# Altium footprint library QFP.PcbLib: 10 footprints
Each footprint in its own frame and in the unit in brackets; x right, y up, seen from the top. Pads: shape width x height; smd on the part's side, far side on the other; paste and mask are expansions set on the pad; w line width, h text height; cw(c..) or ccw(c..) is an arc to the next point about the centre after c.
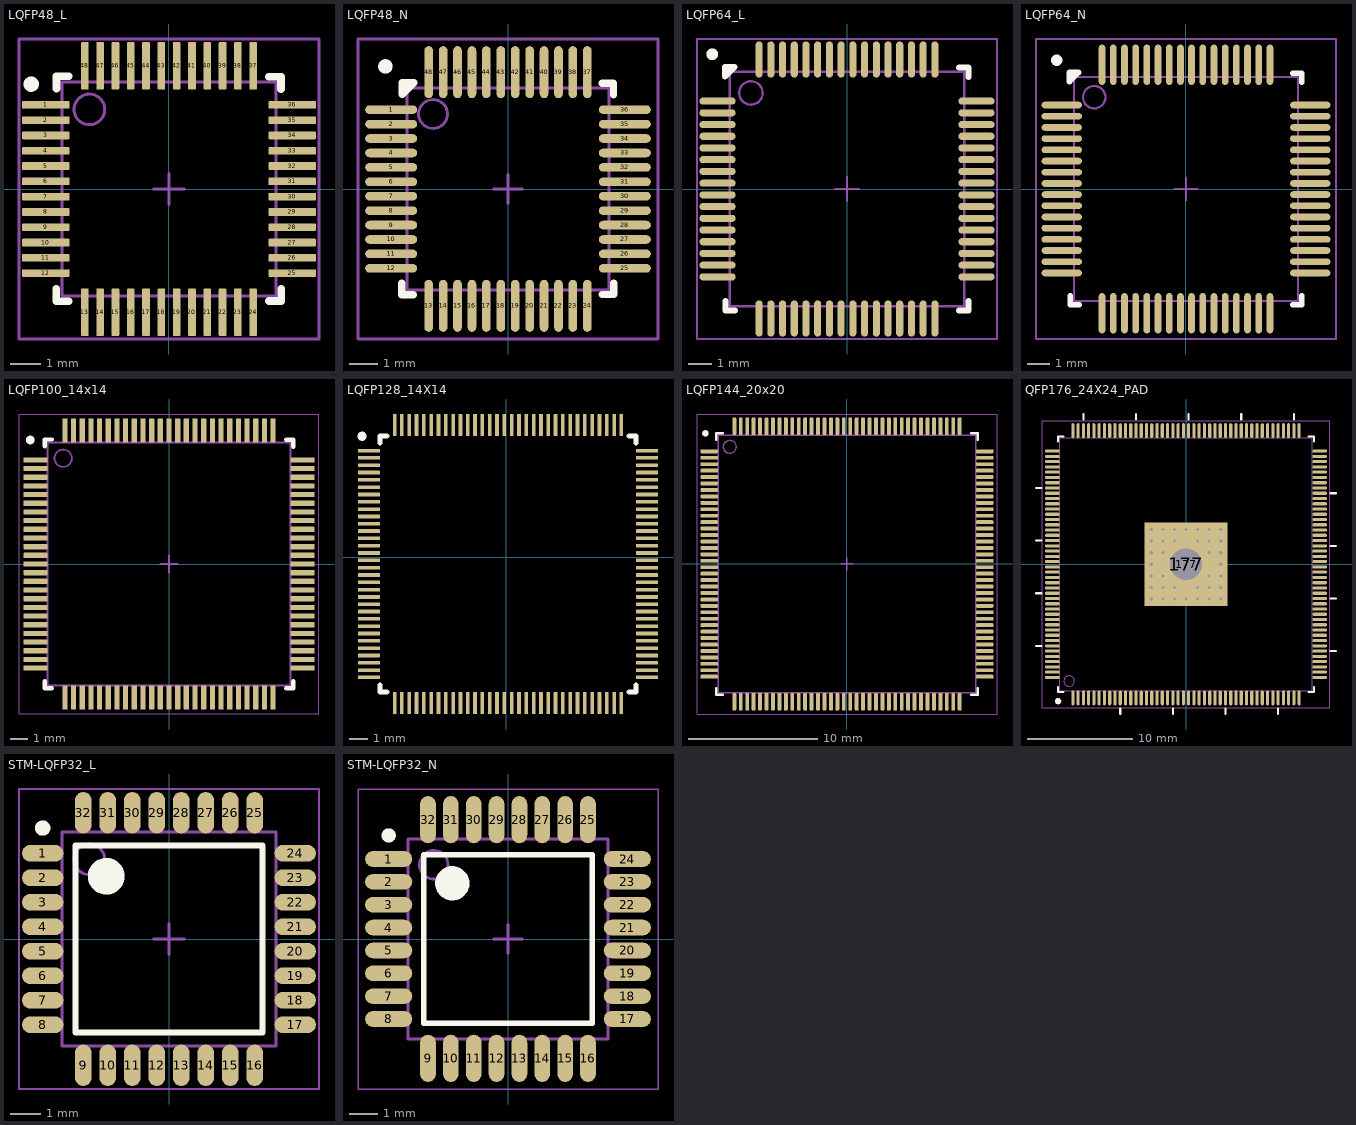
[diagram p0: the footprints below, top view; thin cyan lines are the x and y axes]

## LQFP48_L [mm] "Thin QFP, 48-Leads, Body 7x7mm, Pitch 0.5mm, IPC High Density"
height 1.6
pads (48):
  rrect25% 1.55x0.25 smd mask+0.05: 1(-4.025,2.75) 2(-4.025,2.25) 3(-4.025,1.75) 4(-4.025,1.25) 5(-4.025,0.75) 6(-4.025,0.25) 7(-4.025,-0.25) 8(-4.025,-0.75) 9(-4.025,-1.25) 10(-4.025,-1.75) 11(-4.025,-2.25) 12(-4.025,-2.75) 25(4.025,-2.75) 26(4.025,-2.25) 27(4.025,-1.75) 28(4.025,-1.25) 29(4.025,-0.75) 30(4.025,-0.25) 31(4.025,0.25) 32(4.025,0.75) 33(4.025,1.25) 34(4.025,1.75) 35(4.025,2.25) 36(4.025,2.75)
  rrect25% 0.25x1.55 smd mask+0.05: 13(-2.75,-4.025) 14(-2.25,-4.025) 15(-1.75,-4.025) 16(-1.25,-4.025) 17(-0.75,-4.025) 18(-0.25,-4.025) 19(0.25,-4.025) 20(0.75,-4.025) 21(1.25,-4.025) 22(1.75,-4.025) 23(2.25,-4.025) 24(2.75,-4.025) 37(2.75,4.025) 38(2.25,4.025) 39(1.75,4.025) 40(1.25,4.025) 41(0.75,4.025) 42(0.25,4.025) 43(-0.25,4.025) 44(-0.75,4.025) 45(-1.25,4.025) 46(-1.75,4.025) 47(-2.25,4.025) 48(-2.75,4.025)
Top Overlay:
  circle w0.25: c-4.5,3.425 r0.125
  lines w0.254: -3.682,-3.267 -3.682,-3.667 -3.282,-3.667 ; -3.671,3.284 -3.671,3.684 -3.271,3.684 ; 3.257,3.667 3.657,3.667 3.657,3.267 ; 3.267,-3.657 3.667,-3.657 3.667,-3.257
Mechanical 13:
  circle w0.1: c-2.6,2.6 r0.5
  lines w0.1: -3.5,-3.5 3.5,-3.5 3.5,3.5 -3.5,3.5 -3.5,-3.5
Mechanical 15:
  lines w0.1: -0.5,0 0.5,0 ; 0,-0.5 0,0.5 ; -4.9,-4.9 4.9,-4.9 4.9,4.9 -4.9,4.9 -4.9,-4.9
3D body "User Library-P-LQFP48-7x7-0_50.step": height 1.5, standoff 0.05, extent -4.5,-4.5 4.5,4.5

## LQFP48_N [mm] "Thin QFP, 48-Leads, Body 7x7mm, Pitch 0.5mm, IPC Medium Density"
height 1.6
pads (48):
  oval 1.8x0.3 smd: 1(-4.05,2.75) 2(-4.05,2.25) 3(-4.05,1.75) 4(-4.05,1.25) 5(-4.05,0.75) 6(-4.05,0.25) 7(-4.05,-0.25) 8(-4.05,-0.75) 9(-4.05,-1.25) 10(-4.05,-1.75) 11(-4.05,-2.25) 12(-4.05,-2.75) 25(4.05,-2.75) 26(4.05,-2.25) 27(4.05,-1.75) 28(4.05,-1.25) 29(4.05,-0.75) 30(4.05,-0.25) 31(4.05,0.25) 32(4.05,0.75) 33(4.05,1.25) 34(4.05,1.75) 35(4.05,2.25) 36(4.05,2.75)
  oval 0.3x1.8 smd: 13(-2.75,-4.05) 14(-2.25,-4.05) 15(-1.75,-4.05) 16(-1.25,-4.05) 17(-0.75,-4.05) 18(-0.25,-4.05) 19(0.25,-4.05) 20(0.75,-4.05) 21(1.25,-4.05) 22(1.75,-4.05) 23(2.25,-4.05) 24(2.75,-4.05) 37(2.75,4.05) 38(2.25,4.05) 39(1.75,4.05) 40(1.25,4.05) 41(0.75,4.05) 42(0.25,4.05) 43(-0.25,4.05) 44(-0.75,4.05) 45(-1.25,4.05) 46(-1.75,4.05) 47(-2.25,4.05) 48(-2.75,4.05)
Top Overlay:
  circle w0.25: c-4.25,4.25 r0.125
  lines w0.254: -3.682,-3.267 -3.682,-3.667 -3.282,-3.667 ; 3.257,3.667 3.657,3.667 3.657,3.267 ; 3.267,-3.657 3.667,-3.657 3.667,-3.257 ; -3.667,3.282 -3.267,3.682 -3.667,3.682 -3.667,3.282
Mechanical 13:
  circle w0.1: c-2.6,2.6 r0.5
  lines w0.1: -3.5,-3.5 3.5,-3.5 3.5,3.5 -3.5,3.5 -3.5,-3.5
Mechanical 15:
  lines w0.1: -0.5,0 0.5,0 ; 0,-0.5 0,0.5 ; -5.2,-5.2 5.2,-5.2 5.2,5.2 -5.2,5.2 -5.2,-5.2
3D body "User Library-P-LQFP48-7x7-0_50.step": height 1.5, standoff 0.05, extent -4.5,-4.5 4.5,4.5

## LQFP64_L [mm] "Thin QFP, 64-Leads, Body 10x10mm, Pitch 0.5mm, IPC High Density"
height 1.6
pads (64):
  oval 1.55x0.3 smd: 1(-5.525,3.75) 2(-5.525,3.25) 3(-5.525,2.75) 4(-5.525,2.25) 5(-5.525,1.75) 6(-5.525,1.25) 7(-5.525,0.75) 8(-5.525,0.25) 9(-5.525,-0.25) 10(-5.525,-0.75) 11(-5.525,-1.25) 12(-5.525,-1.75) 13(-5.525,-2.25) 14(-5.525,-2.75) 15(-5.525,-3.25) 16(-5.525,-3.75) 33(5.525,-3.75) 34(5.525,-3.25) 35(5.525,-2.75) 36(5.525,-2.25) 37(5.525,-1.75) 38(5.525,-1.25) 39(5.525,-0.75) 40(5.525,-0.25) 41(5.525,0.25) 42(5.525,0.75) 43(5.525,1.25) 44(5.525,1.75) 45(5.525,2.25) 46(5.525,2.75) 47(5.525,3.25) 48(5.525,3.75)
  oval 0.3x1.55 smd: 17(-3.75,-5.525) 18(-3.25,-5.525) 19(-2.75,-5.525) 20(-2.25,-5.525) 21(-1.75,-5.525) 22(-1.25,-5.525) 23(-0.75,-5.525) 24(-0.25,-5.525) 25(0.25,-5.525) 26(0.75,-5.525) 27(1.25,-5.525) 28(1.75,-5.525) 29(2.25,-5.525) 30(2.75,-5.525) 31(3.25,-5.525) 32(3.75,-5.525) 49(3.75,5.525) 50(3.25,5.525) 51(2.75,5.525) 52(2.25,5.525) 53(1.75,5.525) 54(1.25,5.525) 55(0.75,5.525) 56(0.25,5.525) 57(-0.25,5.525) 58(-0.75,5.525) 59(-1.25,5.525) 60(-1.75,5.525) 61(-2.25,5.525) 62(-2.75,5.525) 63(-3.25,5.525) 64(-3.75,5.525)
Top Overlay:
  circle w0.25: c-5.75,5.75 r0.125
  lines w0.254: -5.175,-4.775 -5.175,-5.175 -4.775,-5.175 ; 4.775,-5.175 5.175,-5.175 5.175,-4.775 ; 4.775,5.175 5.175,5.175 5.175,4.775 ; -5.2,4.8 -4.8,5.2 -5.2,5.2 -5.2,4.8
Mechanical 13:
  circle w0.1: c-4.1,4.1 r0.5
  lines w0.1: -5,-5 -5,5 5,5 5,-5 -5,-5
Mechanical 15:
  lines w0.1: -0.5,0 0.5,0 ; 0,-0.5 0,0.5 ; -6.4,-6.4 -6.4,6.4 6.4,6.4 6.4,-6.4 -6.4,-6.4
3D body "User Library-LQFP64_Grid_0_5.STEP": height 1.6, standoff 0, extent -6,-6 6,6

## LQFP64_N [mm] "Thin QFP, 64-Leads, Body 10x10mm, Pitch 0.5mm, IPC Medium Density"
height 1.6
pads (64):
  oval 1.8x0.3 smd mask+0.05: 1(-5.55,3.75) 2(-5.55,3.25) 3(-5.55,2.75) 4(-5.55,2.25) 5(-5.55,1.75) 6(-5.55,1.25) 7(-5.55,0.75) 8(-5.55,0.25) 9(-5.55,-0.25) 10(-5.55,-0.75) 11(-5.55,-1.25) 12(-5.55,-1.75) 13(-5.55,-2.25) 14(-5.55,-2.75) 15(-5.55,-3.25) 16(-5.55,-3.75) 33(5.55,-3.75) 34(5.55,-3.25) 35(5.55,-2.75) 36(5.55,-2.25) 37(5.55,-1.75) 38(5.55,-1.25) 39(5.55,-0.75) 40(5.55,-0.25) 41(5.55,0.25) 42(5.55,0.75) 43(5.55,1.25) 44(5.55,1.75) 45(5.55,2.25) 46(5.55,2.75) 47(5.55,3.25) 48(5.55,3.75)
  oval 0.3x1.8 smd mask+0.05: 17(-3.75,-5.55) 18(-3.25,-5.55) 19(-2.75,-5.55) 20(-2.25,-5.55) 21(-1.75,-5.55) 22(-1.25,-5.55) 23(-0.75,-5.55) 24(-0.25,-5.55) 25(0.25,-5.55) 26(0.75,-5.55) 27(1.25,-5.55) 28(1.75,-5.55) 29(2.25,-5.55) 30(2.75,-5.55) 31(3.25,-5.55) 32(3.75,-5.55) 49(3.75,5.55) 50(3.25,5.55) 51(2.75,5.55) 52(2.25,5.55) 53(1.75,5.55) 54(1.25,5.55) 55(0.75,5.55) 56(0.25,5.55) 57(-0.25,5.55) 58(-0.75,5.55) 59(-1.25,5.55) 60(-1.75,5.55) 61(-2.25,5.55) 62(-2.75,5.55) 63(-3.25,5.55) 64(-3.75,5.55)
Top Overlay:
  circle w0.25: c-5.775,5.75 r0.125
  lines w0.254: -5.175,-4.775 -5.175,-5.175 -4.775,-5.175 ; 4.775,-5.175 5.175,-5.175 5.175,-4.775 ; 4.775,5.175 5.175,5.175 5.175,4.775 ; -5.2,4.8 -5.2,5.2 -4.8,5.2 -5.2,4.8
Mechanical 13:
  circle w0.1: c-4.1,4.1 r0.5
  lines w0.1: -5,-5 -5,5 5,5 5,-5 -5,-5
Mechanical 15:
  lines w0.1: -0.5,0 0.5,0 ; 0,-0.5 0,0.5 ; -6.7,-6.7 -6.7,6.7 6.7,6.7 6.7,-6.7 -6.7,-6.7
3D body "User Library-PIC32MX3_4FXXXH.STEP": height 1.2, standoff 0, extent -6.006,-6.006 6.006,6.006

## LQFP100_14x14 [mm] "LQFP, 100-Leads, Body 14,00x14,00mm, Pitch 0,50mm, IPC Medium Density"
height 1.6
pads (100):
  rrect25% 1.4x0.3 smd mask+0.05: 1(-7.7,6) 2(-7.7,5.5) 3(-7.7,5) 4(-7.7,4.5) 5(-7.7,4) 6(-7.7,3.5) 7(-7.7,3) 8(-7.7,2.5) 9(-7.7,2) 10(-7.7,1.5) 11(-7.7,1) 12(-7.7,0.5) 13(-7.7,0) 14(-7.7,-0.5) 15(-7.7,-1) 16(-7.7,-1.5) 17(-7.7,-2) 18(-7.7,-2.5) 19(-7.7,-3) 20(-7.7,-3.5) 21(-7.7,-4) 22(-7.7,-4.5) 23(-7.7,-5) 24(-7.7,-5.5) 25(-7.7,-6) 51(7.7,-6) 52(7.7,-5.5) 53(7.7,-5) 54(7.7,-4.5) 55(7.7,-4) 56(7.7,-3.5) 57(7.7,-3) 58(7.7,-2.5) 59(7.7,-2) 60(7.7,-1.5) 61(7.7,-1) 62(7.7,-0.5) 63(7.7,0) 64(7.7,0.5) 65(7.7,1) 66(7.7,1.5) 67(7.7,2) 68(7.7,2.5) 69(7.7,3) 70(7.7,3.5) 71(7.7,4) 72(7.7,4.5) 73(7.7,5) 74(7.7,5.5) 75(7.7,6)
  rrect25% 0.3x1.4 smd mask+0.05: 26(-6,-7.7) 27(-5.5,-7.7) 28(-5,-7.7) 29(-4.5,-7.7) 30(-4,-7.7) 31(-3.5,-7.7) 32(-3,-7.7) 33(-2.5,-7.7) 34(-2,-7.7) 35(-1.5,-7.7) 36(-1,-7.7) 37(-0.5,-7.7) 38(0,-7.7) 39(0.5,-7.7) 40(1,-7.7) 41(1.5,-7.7) 42(2,-7.7) 43(2.5,-7.7) 44(3,-7.7) 45(3.5,-7.7) 46(4,-7.7) 47(4.5,-7.7) 48(5,-7.7) 49(5.5,-7.7) 50(6,-7.7) 76(6,7.7) 77(5.5,7.7) 78(5,7.7) 79(4.5,7.7) 80(4,7.7) 81(3.5,7.7) 82(3,7.7) 83(2.5,7.7) 84(2,7.7) 85(1.5,7.7) 86(1,7.7) 87(0.5,7.7) 88(0,7.7) 89(-0.5,7.7) 90(-1,7.7) 91(-1.5,7.7) 92(-2,7.7) 93(-2.5,7.7) 94(-3,7.7) 95(-3.5,7.7) 96(-4,7.7) 97(-4.5,7.7) 98(-5,7.7) 99(-5.5,7.7) 100(-6,7.7)
Top Overlay:
  circle w0.25: c-8,7.15 r0.125
  lines w0.254: -7.167,6.782 -7.167,7.182 -6.767,7.182 ; -7.157,-6.767 -7.157,-7.167 -6.757,-7.167 ; 6.757,7.167 7.157,7.167 7.157,6.767 ; 6.767,-7.157 7.167,-7.157 7.167,-6.757 ; -6.767,7.182 -6.767,7.182
Mechanical 13:
  circle w0.1: c-6.1,6.1 r0.5
  lines w0.1: -7,-7 -7,7 7,7 7,-7 -7,-7
Mechanical 15:
  lines w0.05: -8.65,-8.65 -8.65,8.65 8.65,8.65 8.65,-8.65 -8.65,-8.65
  lines w0.1: -0.5,0 0.5,0 ; 0,-0.5 0,0.5
3D body "LQFP100_14x14.step": height 1.6, standoff 0, extent -8,-8 8,8

## LQFP128_14X14 [mm]
pads (128):
  rrect25% 1.2x0.2 smd mask+0.05: 1(-7.493,5.842) 2(-7.493,5.442) 3(-7.493,5.042) 4(-7.493,4.642) 5(-7.493,4.242) 6(-7.493,3.842) 7(-7.493,3.442) 8(-7.493,3.042) 9(-7.493,2.642) 10(-7.493,2.242) 11(-7.493,1.842) 12(-7.493,1.442) 13(-7.493,1.042) 14(-7.493,0.642) 15(-7.493,0.242) 16(-7.493,-0.158) 17(-7.493,-0.558) 18(-7.493,-0.958) 19(-7.493,-1.358) 20(-7.493,-1.758) 21(-7.493,-2.158) 22(-7.493,-2.558) 23(-7.493,-2.958) 24(-7.493,-3.358) 25(-7.493,-3.758) 26(-7.493,-4.158) 27(-7.493,-4.558) 28(-7.493,-4.958) 29(-7.493,-5.358) 30(-7.493,-5.758) 31(-7.493,-6.158) 32(-7.493,-6.558) 65(7.707,-6.558) 66(7.707,-6.158) 67(7.707,-5.758) 68(7.707,-5.358) 69(7.707,-4.958) 70(7.707,-4.558) 71(7.707,-4.158) 72(7.707,-3.758) 73(7.707,-3.358) 74(7.707,-2.958) 75(7.707,-2.558) 76(7.707,-2.158) 77(7.707,-1.758) 78(7.707,-1.358) 79(7.707,-0.958) 80(7.707,-0.558) 81(7.707,-0.158) 82(7.707,0.242) 83(7.707,0.642) 84(7.707,1.042) 85(7.707,1.442) 86(7.707,1.842) 87(7.707,2.242) 88(7.707,2.642) 89(7.707,3.042) 90(7.707,3.442) 91(7.707,3.842) 92(7.707,4.242) 93(7.707,4.642) 94(7.707,5.042) 95(7.707,5.442) 96(7.707,5.842)
  rrect25% 0.2x1.2 smd mask+0.05: 33(-6.093,-7.958) 34(-5.693,-7.958) 35(-5.293,-7.958) 36(-4.893,-7.958) 37(-4.493,-7.958) 38(-4.093,-7.958) 39(-3.693,-7.958) 40(-3.293,-7.958) 41(-2.893,-7.958) 42(-2.493,-7.958) 43(-2.093,-7.958) 44(-1.693,-7.958) 45(-1.293,-7.958) 46(-0.893,-7.958) 47(-0.493,-7.958) 48(-0.093,-7.958) 49(0.307,-7.958) 50(0.707,-7.958) 51(1.107,-7.958) 52(1.507,-7.958) 53(1.907,-7.958) 54(2.307,-7.958) 55(2.707,-7.958) 56(3.107,-7.958) 57(3.507,-7.958) 58(3.907,-7.958) 59(4.307,-7.958) 60(4.707,-7.958) 61(5.107,-7.958) 62(5.507,-7.958) 63(5.907,-7.958) 64(6.307,-7.958) 97(6.307,7.242) 98(5.907,7.242) 99(5.507,7.242) 100(5.107,7.242) 101(4.707,7.242) 102(4.307,7.242) 103(3.907,7.242) 104(3.507,7.242) 105(3.107,7.242) 106(2.707,7.242) 107(2.307,7.242) 108(1.907,7.242) 109(1.507,7.242) 110(1.107,7.242) 111(0.707,7.242) 112(0.307,7.242) 113(-0.093,7.242) 114(-0.493,7.242) 115(-0.893,7.242) 116(-1.293,7.242) 117(-1.693,7.242) 118(-2.093,7.242) 119(-2.493,7.242) 120(-2.893,7.242) 121(-3.293,7.242) 122(-3.693,7.242) 123(-4.093,7.242) 124(-4.493,7.242) 125(-4.893,7.242) 126(-5.293,7.242) 127(-5.693,7.242) 128(-6.093,7.242)
Top Overlay:
  circle w0.25: c-7.875,6.625 r0.125
  lines w0.254: -6.893,-6.958 -6.893,-7.358 -6.493,-7.358 ; -6.893,6.242 -6.893,6.642 -6.493,6.642 ; 6.707,-7.358 7.107,-7.358 7.107,-6.958 ; 6.707,6.642 7.107,6.642 7.107,6.242
3D body "User Library-LQFP128_04.step": height 1.6, standoff 0, extent -7.873,-8.354 8.127,7.646

## LQFP144_20x20 [mm] "LQFP 144-pin, 20 x 20 mm low-profile quad flat package"
height 1.6
pads (144):
  rrect50% 1.35x0.3 smd mask+0.05: 1(-10.7,8.75) 2(-10.7,8.25) 3(-10.7,7.75) 4(-10.7,7.25) 5(-10.7,6.75) 6(-10.7,6.25) 7(-10.7,5.75) 8(-10.7,5.25) 9(-10.7,4.75) 10(-10.7,4.25) 11(-10.7,3.75) 12(-10.7,3.25) 13(-10.7,2.75) 14(-10.7,2.25) 15(-10.7,1.75) 16(-10.7,1.25) 17(-10.7,0.75) 18(-10.7,0.25) 19(-10.7,-0.25) 20(-10.7,-0.75) 21(-10.7,-1.25) 22(-10.7,-1.75) 23(-10.7,-2.25) 24(-10.7,-2.75) 25(-10.7,-3.25) 26(-10.7,-3.75) 27(-10.7,-4.25) 28(-10.7,-4.75) 29(-10.7,-5.25) 30(-10.7,-5.75) 31(-10.7,-6.25) 32(-10.7,-6.75) 33(-10.7,-7.25) 34(-10.7,-7.75) 35(-10.7,-8.25) 36(-10.7,-8.75) 73(10.7,-8.75) 74(10.7,-8.25) 75(10.7,-7.75) 76(10.7,-7.25) 77(10.7,-6.75) 78(10.7,-6.25) 79(10.7,-5.75) 80(10.7,-5.25) 81(10.7,-4.75) 82(10.7,-4.25) 83(10.7,-3.75) 84(10.7,-3.25) 85(10.7,-2.75) 86(10.7,-2.25) 87(10.7,-1.75) 88(10.7,-1.25) 89(10.7,-0.75) 90(10.7,-0.25) 91(10.7,0.25) 92(10.7,0.75) 93(10.7,1.25) 94(10.7,1.75) 95(10.7,2.25) 96(10.7,2.75) 97(10.7,3.25) 98(10.7,3.75) 99(10.7,4.25) 100(10.7,4.75) 101(10.7,5.25) 102(10.7,5.75) 103(10.7,6.25) 104(10.7,6.75) 105(10.7,7.25) 106(10.7,7.75) 107(10.7,8.25) 108(10.7,8.75)
  rrect50% 0.3x1.35 smd mask+0.05: 37(-8.75,-10.7) 38(-8.25,-10.7) 39(-7.75,-10.7) 40(-7.25,-10.7) 41(-6.75,-10.7) 42(-6.25,-10.7) 43(-5.75,-10.7) 44(-5.25,-10.7) 45(-4.75,-10.7) 46(-4.25,-10.7) 47(-3.75,-10.7) 48(-3.25,-10.7) 49(-2.75,-10.7) 50(-2.25,-10.7) 51(-1.75,-10.7) 52(-1.25,-10.7) 53(-0.75,-10.7) 54(-0.25,-10.7) 55(0.25,-10.7) 56(0.75,-10.7) 57(1.25,-10.7) 58(1.75,-10.7) 59(2.25,-10.7) 60(2.75,-10.7) 61(3.25,-10.7) 62(3.75,-10.7) 63(4.25,-10.7) 64(4.75,-10.7) 65(5.25,-10.7) 66(5.75,-10.7) 67(6.25,-10.7) 68(6.75,-10.7) 69(7.25,-10.7) 70(7.75,-10.7) 71(8.25,-10.7) 72(8.75,-10.7) 109(8.75,10.7) 110(8.25,10.7) 111(7.75,10.7) 112(7.25,10.7) 113(6.75,10.7) 114(6.25,10.7) 115(5.75,10.7) 116(5.25,10.7) 117(4.75,10.7) 118(4.25,10.7) 119(3.75,10.7) 120(3.25,10.7) 121(2.75,10.7) 122(2.25,10.7) 123(1.75,10.7) 124(1.25,10.7) 125(0.75,10.7) 126(0.25,10.7) 127(-0.25,10.7) 128(-0.75,10.7) 129(-1.25,10.7) 130(-1.75,10.7) 131(-2.25,10.7) 132(-2.75,10.7) 133(-3.25,10.7) 134(-3.75,10.7) 135(-4.25,10.7) 136(-4.75,10.7) 137(-5.25,10.7) 138(-5.75,10.7) 139(-6.25,10.7) 140(-6.75,10.7) 141(-7.25,10.7) 142(-7.75,10.7) 143(-8.25,10.7) 144(-8.75,10.7)
Top Overlay:
  circle w0.25: c-11,10.15 r0.125
  lines w0.2: -10.15,-9.65 -10.15,-10.15 -9.65,-10.15 ; -10.15,9.65 -10.15,10.15 -9.65,10.15 ; 9.65,-10.15 10.15,-10.15 10.15,-9.65 ; 9.65,10.15 10.15,10.15 10.15,9.65
Mechanical 13:
  circle w0.1: c-9.1,9.1 r0.5
  lines w0.1: -10,-10 10,-10 10,10 -10,10 -10,-10
Mechanical 15:
  lines w0.05: -11.65,-11.65 11.65,-11.65 11.65,11.65 -11.65,11.65 -11.65,-11.65
  lines w0.1: -0.5,0 0.5,0 ; 0,-0.5 0,0.5
3D body "LQFP144_20x20.step": height 1.6, standoff 0, extent -11,-11 11,11

## QFP176_24X24_PAD [mm] "TSQFP, 176-Leads, Body 24,00x24,00mm, Pitch 0,50mm, Thermal Pad 7,90x7,90mm, IPC Medium Density"
height 1.6
pads (178):
  oval 0.3x1.4 smd mask+0.05: 1(-10.75,-12.7) 2(-10.25,-12.7) 3(-9.75,-12.7) 4(-9.25,-12.7) 5(-8.75,-12.7) 6(-8.25,-12.7) 7(-7.75,-12.7) 8(-7.25,-12.7) 9(-6.75,-12.7) 10(-6.25,-12.7) 11(-5.75,-12.7) 12(-5.25,-12.7) 13(-4.75,-12.7) 14(-4.25,-12.7) 15(-3.75,-12.7) 16(-3.25,-12.7) 17(-2.75,-12.7) 18(-2.25,-12.7) 19(-1.75,-12.7) 20(-1.25,-12.7) 21(-0.75,-12.7) 22(-0.25,-12.7) 23(0.25,-12.7) 24(0.75,-12.7) 25(1.25,-12.7) 26(1.75,-12.7) 27(2.25,-12.7) 28(2.75,-12.7) 29(3.25,-12.7) 30(3.75,-12.7) 31(4.25,-12.7) 32(4.75,-12.7) 33(5.25,-12.7) 34(5.75,-12.7) 35(6.25,-12.7) 36(6.75,-12.7) 37(7.25,-12.7) 38(7.75,-12.7) 39(8.25,-12.7) 40(8.75,-12.7) 41(9.25,-12.7) 42(9.75,-12.7) 43(10.25,-12.7) 44(10.75,-12.7) 89(10.75,12.7) 90(10.25,12.7) 91(9.75,12.7) 92(9.25,12.7) 93(8.75,12.7) 94(8.25,12.7) 95(7.75,12.7) 96(7.25,12.7) 97(6.75,12.7) 98(6.25,12.7) 99(5.75,12.7) 100(5.25,12.7) 101(4.75,12.7) 102(4.25,12.7) 103(3.75,12.7) 104(3.25,12.7) 105(2.75,12.7) 106(2.25,12.7) 107(1.75,12.7) 108(1.25,12.7) 109(0.75,12.7) 110(0.25,12.7) 111(-0.25,12.7) 112(-0.75,12.7) 113(-1.25,12.7) 114(-1.75,12.7) 115(-2.25,12.7) 116(-2.75,12.7) 117(-3.25,12.7) 118(-3.75,12.7) 119(-4.25,12.7) 120(-4.75,12.7) 121(-5.25,12.7) 122(-5.75,12.7) 123(-6.25,12.7) 124(-6.75,12.7) 125(-7.25,12.7) 126(-7.75,12.7) 127(-8.25,12.7) 128(-8.75,12.7) 129(-9.25,12.7) 130(-9.75,12.7) 131(-10.25,12.7) 132(-10.75,12.7)
  oval 1.4x0.3 smd mask+0.05: 45(12.7,-10.75) 46(12.7,-10.25) 47(12.7,-9.75) 48(12.7,-9.25) 49(12.7,-8.75) 50(12.7,-8.25) 51(12.7,-7.75) 52(12.7,-7.25) 53(12.7,-6.75) 54(12.7,-6.25) 55(12.7,-5.75) 56(12.7,-5.25) 57(12.7,-4.75) 58(12.7,-4.25) 59(12.7,-3.75) 60(12.7,-3.25) 61(12.7,-2.75) 62(12.7,-2.25) 63(12.7,-1.75) 64(12.7,-1.25) 65(12.7,-0.75) 66(12.7,-0.25) 67(12.7,0.25) 68(12.7,0.75) 69(12.7,1.25) 70(12.7,1.75) 71(12.7,2.25) 72(12.7,2.75) 73(12.7,3.25) 74(12.7,3.75) 75(12.7,4.25) 76(12.7,4.75) 77(12.7,5.25) 78(12.7,5.75) 79(12.7,6.25) 80(12.7,6.75) 81(12.7,7.25) 82(12.7,7.75) 83(12.7,8.25) 84(12.7,8.75) 85(12.7,9.25) 86(12.7,9.75) 87(12.7,10.25) 88(12.7,10.75) 133(-12.7,10.75) 134(-12.7,10.25) 135(-12.7,9.75) 136(-12.7,9.25) 137(-12.7,8.75) 138(-12.7,8.25) 139(-12.7,7.75) 140(-12.7,7.25) 141(-12.7,6.75) 142(-12.7,6.25) 143(-12.7,5.75) 144(-12.7,5.25) 145(-12.7,4.75) 146(-12.7,4.25) 147(-12.7,3.75) 148(-12.7,3.25) 149(-12.7,2.75) 150(-12.7,2.25) 151(-12.7,1.75) 152(-12.7,1.25) 153(-12.7,0.75) 154(-12.7,0.25) 155(-12.7,-0.25) 156(-12.7,-0.75) 157(-12.7,-1.25) 158(-12.7,-1.75) 159(-12.7,-2.25) 160(-12.7,-2.75) 161(-12.7,-3.25) 162(-12.7,-3.75) 163(-12.7,-4.25) 164(-12.7,-4.75) 165(-12.7,-5.25) 166(-12.7,-5.75) 167(-12.7,-6.25) 168(-12.7,-6.75) 169(-12.7,-7.25) 170(-12.7,-7.75) 171(-12.7,-8.25) 172(-12.7,-8.75) 173(-12.7,-9.25) 174(-12.7,-9.75) 175(-12.7,-10.25) 176(-12.7,-10.75)
  rect 7.9x7.9 smd mask+0.05: 177(0,0)
  round 2.5 hole 3 mask+0.5: 177(0,0)
via 3.3,3.3 diameter 0.8 hole 0.3
via 3.3,2.2 diameter 0.8 hole 0.3
via 3.3,1.1 diameter 0.8 hole 0.3
via 3.3,0 diameter 0.8 hole 0.3
via 3.3,-1.1 diameter 0.8 hole 0.3
via 3.3,-2.2 diameter 0.8 hole 0.3
via 3.3,-3.3 diameter 0.8 hole 0.3
via 2.2,3.3 diameter 0.8 hole 0.3
via 2.2,2.2 diameter 0.8 hole 0.3
via 2.2,1.1 diameter 0.8 hole 0.3
via 2.2,-1.1 diameter 0.8 hole 0.3
via 2.2,-2.2 diameter 0.8 hole 0.3
via 2.2,-3.3 diameter 0.8 hole 0.3
via 1.1,3.3 diameter 0.8 hole 0.3
via 1.1,2.2 diameter 0.8 hole 0.3
via 1.1,-2.2 diameter 0.8 hole 0.3
via 1.1,-3.3 diameter 0.8 hole 0.3
via 0,3.3 diameter 0.8 hole 0.3
via 0,-3.3 diameter 0.8 hole 0.3
via -1.1,3.3 diameter 0.8 hole 0.3
via -1.1,2.2 diameter 0.8 hole 0.3
via -1.1,-2.2 diameter 0.8 hole 0.3
via -1.1,-3.3 diameter 0.8 hole 0.3
via -2.2,3.3 diameter 0.8 hole 0.3
via -2.2,2.2 diameter 0.8 hole 0.3
via -2.2,1.1 diameter 0.8 hole 0.3
via -2.2,-1.1 diameter 0.8 hole 0.3
via -2.2,-2.2 diameter 0.8 hole 0.3
via -2.2,-3.3 diameter 0.8 hole 0.3
via -3.3,3.3 diameter 0.8 hole 0.3
via -3.3,2.2 diameter 0.8 hole 0.3
via -3.3,1.1 diameter 0.8 hole 0.3
via -3.3,0 diameter 0.8 hole 0.3
via -3.3,-1.1 diameter 0.8 hole 0.3
via -3.3,-2.2 diameter 0.8 hole 0.3
via -3.3,-3.3 diameter 0.8 hole 0.3
Top Overlay:
  circle w0.3: c-12.15,-13 r0.15
  lines w0.2: -14.25,-7.75 -13.75,-7.75 ; -14.25,-2.75 -13.75,-2.75 ; -14.25,2.25 -13.75,2.25 ; -14.25,7.25 -13.75,7.25 ; -12.15,-11.65 -12.15,-12.15 -11.65,-12.15 ; -12.15,11.65 -12.15,12.15 -11.65,12.15 ; -9.75,13.75 -9.75,14.25 ; -6.25,-14.225 -6.25,-13.725 ; -4.75,13.75 -4.75,14.25 ; -1.25,-14.225 -1.25,-13.725 ; 0.25,13.75 0.25,14.25 ; 3.75,-14.225 3.75,-13.725 ; 5.25,13.775 5.25,14.275 ; 8.75,-14.225 8.75,-13.725 ; 10.25,13.75 10.25,14.25 ; 11.65,-12.15 12.15,-12.15 12.15,-11.65 ; 11.65,12.15 12.15,12.15 12.15,11.65 ; 13.75,-8.25 14.25,-8.25 ; 13.75,-3.25 14.25,-3.25 ; 13.75,1.75 14.25,1.75 ; 13.75,6.75 14.25,6.75
Mechanical 13:
  circle w0.1: c-11.1,-11.1 r0.5
  lines w0.1: -12,-12 -12,12 12,12 12,-12 -12,-12
Mechanical 15:
  lines w0.05: -13.65,-13.65 -13.65,13.65 13.65,13.65 13.65,-13.65 -13.65,-13.65
  lines w0.1: -0.5,0 0.5,0 ; 0,-0.5 0,0.5
3D body "QFP176_24X24_PAD.step": height 1.6, standoff 0, extent -13,-13 13,13

## STM-LQFP32_L [mm] "QFP, 32-Leads, Body 7x7mm, Pitch 0.8mm, IPC High Density"
height 1.6
pads (32):
  oval 1.35x0.55 smd: 1(-4.125,2.8) 2(-4.125,2) 3(-4.125,1.2) 4(-4.125,0.4) 5(-4.125,-0.4) 6(-4.125,-1.2) 7(-4.125,-2) 8(-4.125,-2.8) 17(4.125,-2.8) 18(4.125,-2) 19(4.125,-1.2) 20(4.125,-0.4) 21(4.125,0.4) 22(4.125,1.2) 23(4.125,2) 24(4.125,2.8)
  oval 0.55x1.35 smd: 9(-2.8,-4.125) 10(-2,-4.125) 11(-1.2,-4.125) 12(-0.4,-4.125) 13(0.4,-4.125) 14(1.2,-4.125) 15(2,-4.125) 16(2.8,-4.125) 25(2.8,4.125) 26(2,4.125) 27(1.2,4.125) 28(0.4,4.125) 29(-0.4,4.125) 30(-1.2,4.125) 31(-2,4.125) 32(-2.8,4.125)
Top Overlay:
  circle w0.6: c-2.05,2.05 r0.3
  circle w0.25: c-4.125,3.625 r0.125
  lines w0.2: -3.05,-3.05 3.05,-3.05 3.05,3.05 -3.05,3.05 -3.05,-3.05
Mechanical 13:
  circle w0.1: c-2.6,2.6 r0.5
  lines w0.1: -3.5,-3.5 3.5,-3.5 3.5,3.5 -3.5,3.5 -3.5,-3.5
Mechanical 15:
  lines w0.05: -4.9,-4.9 4.9,-4.9 4.9,4.9 -4.9,4.9 -4.9,-4.9
  lines w0.1: -0.5,0 0.5,0 ; 0,-0.5 0,0.5
3D body "User Library-LQFP32-2.STEP": height 1.62, standoff -0.01, extent -4.572,-4.572 4.572,4.572

## STM-LQFP32_N [mm] "QFP, 32-Leads, Body 7x7mm, Pitch 0.8mm, IPC Medium Density"
height 1.6
pads (32):
  oval 1.65x0.55 smd: 1(-4.175,2.8) 2(-4.175,2) 3(-4.175,1.2) 4(-4.175,0.4) 5(-4.175,-0.4) 6(-4.175,-1.2) 7(-4.175,-2) 8(-4.175,-2.8) 17(4.175,-2.8) 18(4.175,-2) 19(4.175,-1.2) 20(4.175,-0.4) 21(4.175,0.4) 22(4.175,1.2) 23(4.175,2) 24(4.175,2.8)
  oval 0.55x1.65 smd: 9(-2.8,-4.175) 10(-2,-4.175) 11(-1.2,-4.175) 12(-0.4,-4.175) 13(0.4,-4.175) 14(1.2,-4.175) 15(2,-4.175) 16(2.8,-4.175) 25(2.8,4.175) 26(2,4.175) 27(1.2,4.175) 28(0.4,4.175) 29(-0.4,4.175) 30(-1.2,4.175) 31(-2,4.175) 32(-2.8,4.175)
Top Overlay:
  circle w0.25: c-4.175,3.625 r0.125
  circle w0.6: c-1.95,1.95 r0.3
  lines w0.2: -2.95,-2.95 -2.95,2.95 2.95,2.95 2.95,-2.95 -2.95,-2.95
Mechanical 13:
  circle w0.1: c-2.6,2.6 r0.5
  lines w0.1: -3.5,-3.5 -3.5,3.5 3.5,3.5 3.5,-3.5 -3.5,-3.5
Mechanical 15:
  lines w0.05: -5.25,-5.25 -5.25,5.25 5.25,5.25 5.25,-5.25 -5.25,-5.25
  lines w0.1: -0.5,0 0.5,0 ; 0,-0.5 0,0.5
3D body "User Library-LQFP32-2.STEP": height 1.62, standoff -0.01, extent -4.572,-4.572 4.572,4.572